# Altium schematic symbol library bt_modules.SchLib: 1 symbol
Pins are listed as number, name and electrical type; pins without a type are passive.

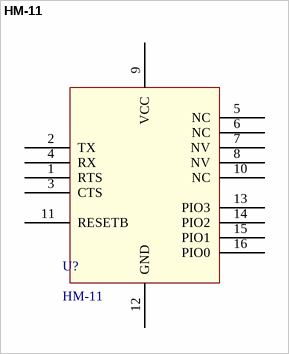
[diagram p0: symbol HM-11]

## HM-11
designator U?
BLUETOOTH V4.0 HM-11 BLE MODULE; Manufacturer Part No.: 317030001; Supply: 3.3V; Digi-Key Part No.: 1597-1359-ND
footprint HM-11 (HM-11 Bluetooth Module)
pins: 1 RTS, 2 TX, 3 CTS, 4 RX, 5 NC, 6 NC, 7 NV, 8 NV, 9 VCC, 10 NC, 11 RESETB, 12 GND, 13 PIO3, 14 PIO2, 15 PIO1, 16 PIO0